# Altium schematic symbol library TeCrea-Misc.SCHLIB: 96 symbols (part 2 of 3)
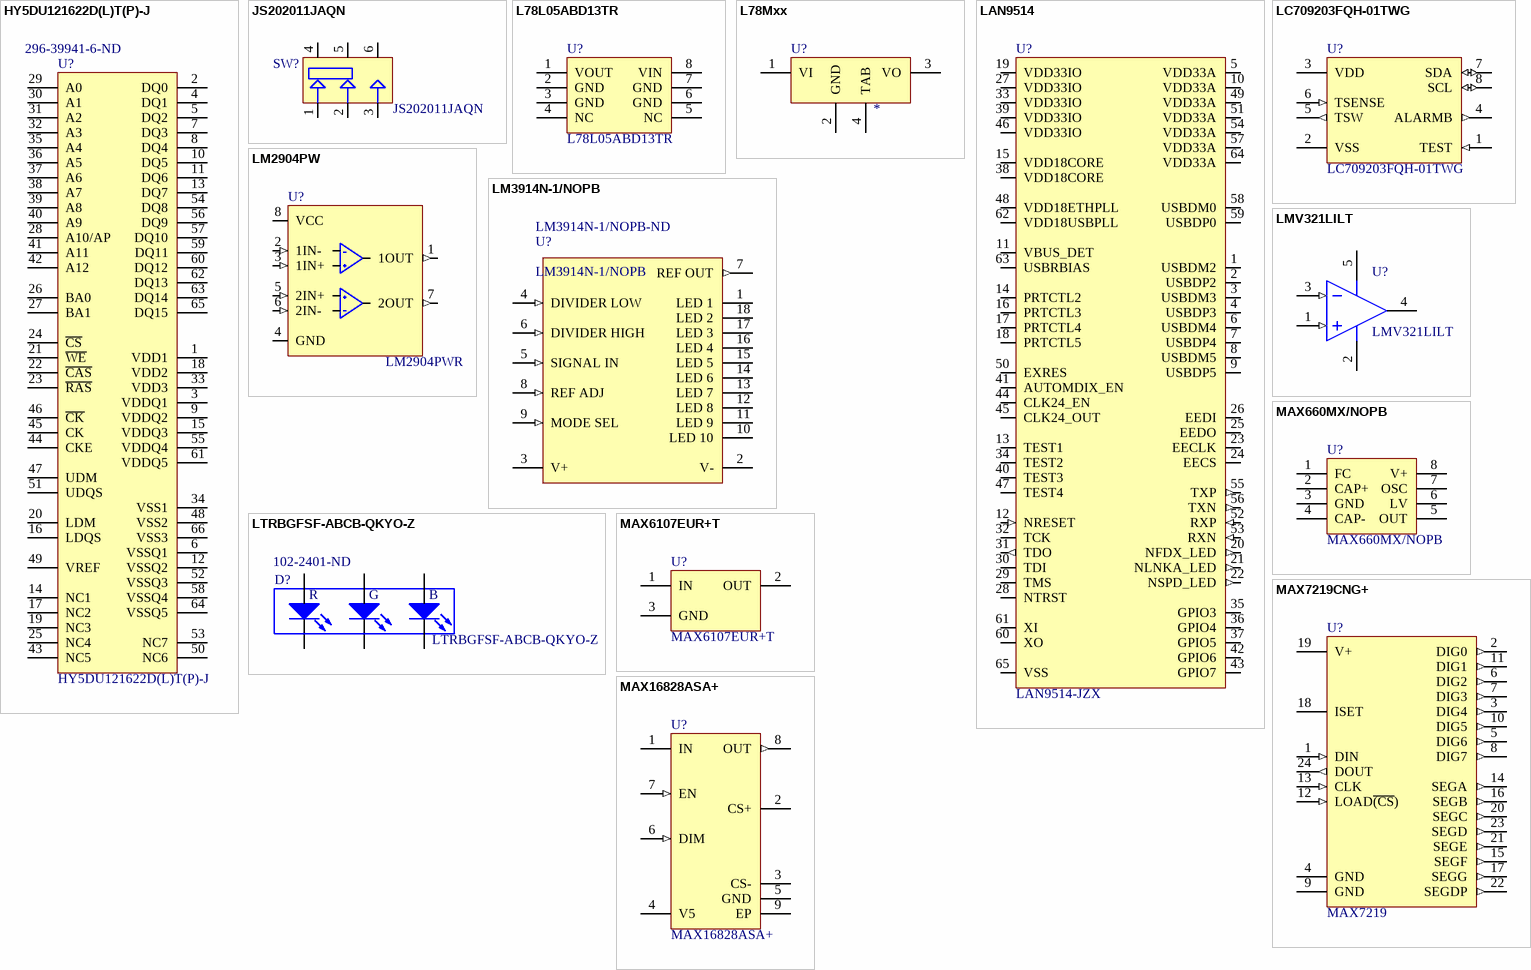
[diagram p5: symbols HY5DU121622D(L)T(P)-J to MAX16828ASA+]

## MAX660MX/NOPB
designator U?
IC REG SWTCHD CAP INV 0.1A 8SOIC; Manufacturer: Texas Instruments; Function: Ratiometric; Output Configuration: Positive or Negative; Topology: Charge Pump; Output Type: Fixed; Number of Outputs: 1; Voltage - Input (Min): 1.5V; Voltage - Input (Max): 5.5V; Voltage - Output (Min/Fixed): -Vin, 2Vin; Current - Output: 100mA; Frequency - Switching: 10kHz, 80kHz; Synchronous Rectifier: No; Supplier 1: Digi-Key; Manufacturer Part Number: MAX660MX/NOPB; RoHS: RoHS Compliant; Category: Integrated Circuits (ICs); Stock 1: 4989; Pricing 1: 1=1.65, 10=1.471, 100=1.1466, 500=0.94718, 1000=0.74778 (USD); Packaging: Cut Tape (CT); Part Status: Active; Voltage - Output (Max): -; Operating Temperature: -40°C ~ 85°C (TA); Mounting Type: Surface Mount; Package / Case: 8-SOIC (0.154", 3.90mm Width); Supplier Device Package: 8-SOIC; Base Part Number: MAX660; ComponentLink1URL: http://www.ti.com/lit/ds/symlink/max660.pdf; ComponentLink1Description: http://www.ti.com/lit/ds/symlink/max660.pdf; Value: MAX660MX/NOPB; Supplier Part Number 1: MAX660MX/NOPBCT-ND
footprint SOIC8 (SOIC, 8-Leads, Body 4.9x3.9mm, Pitch 1.27mm, IPC Medium Density)
pins: 1 FC, 2 CAP+, 3 GND, 4 CAP-, 5 OUT, 6 LV, 7 OSC, 8 V+

## MAX6107EUR+T
designator U?
PMIC - voltage reference Maxim Integrated MAX6107EUR+T Series Adjustable SOT 23-3; Reference Type: Series,Fixed; Max Input Voltage: 12.6V; Min Input Voltage: 4.682V; Output Voltage: 4.5V; Tolerance: 0.4%; Max Output Current: 5mA; Output Type: Fixed; Max Supply Current: 125uA; Temperature Coefficient: 75ppm/°C; Max Output Voltage: 4.518V; Supplier 1: Digi-Key; Manufacturer 1: Maxim; Manufacturer Part Number 1: MAX6107EUR+T; Stock 1: 4299; Pricing 1: 1=1,16000, 10=1,03800, 25=0,98560, 100=0,75680, 250=0,66880, 500=0,63360, 1000=0,57200 (USD); RoHS: Yes; Mount: Surface Mount; Case/Package: SOT-23-3; Number of Pins: 3; Min Operating Temperature: -40°C; Max Operating Temperature: 85°C; Packaging: Tape and Reel; Package Quantity: 1; Min Output Voltage: 4.5V; Output Current: 5mA; Operating Supply Current: 125uA; Reference Voltage: 4.5V; Length: 3.04mm; Height: 1.02mm; Width: 1.4mm; Radiation Hardening: No; Lead Free: Lead Free; REACH SVHC: Unknown; ComponentLink1URL: https://datasheet.ciiva.com/30476/0900766b811dea62-30476385.pdf?src-supplier=RSComponents; ComponentLink1Description: https://datasheet.ciiva.com/30476/0900766b811dea62-30476385.pdf?src-supplier=RSComponents; ComponentLink2URL: https://datasheet.ciiva.com/14198/max6100-max6107-14198853.pdf?src-supplier=Avnet; ComponentLink2Description: https://datasheet.ciiva.com/14198/max6100-max6107-14198853.pdf?src-supplier=Avnet; ComponentLink3URL: https://datasheet.ciiva.com/2008/max6100-max6107-2008214.pdf?src-supplier=Digi-Key; ComponentLink3Description: https://datasheet.ciiva.com/2008/max6100-max6107-2008214.pdf?src-supplier=Digi-Key; ComponentLink4URL: https://datasheet.ciiva.com/2008/max6100-max6107-2008215.pdf?src-supplier=Digi-Key; ComponentLink4Description: https://datasheet.ciiva.com/2008/max6100-max6107-2008215.pdf?src-supplier=Digi-Key; ComponentLink5URL: https://datasheet.ciiva.com/2008/max6100-max6107-2008216.pdf?src-supplier=Digi-Key; ComponentLink5Description: https://datasheet.ciiva.com/2008/max6100-max6107-2008216.pdf?src-supplier=Digi-Key; ComponentLink6URL: https://datasheet.ciiva.com/17217/max6100-max6107-17217436.pdf?src-supplier=Avnet+Europe; ComponentLink6Description: https://datasheet.ciiva.com/17217/max6100-max6107-17217436.pdf?src-supplier=Avnet+Europe; Value: MAX6107EUR+T; Supplier Part Number 1: MAX6107EUR+TCT-ND
footprint SOT-23_N (SOT23, 3-Leads, Body 2.9x1.3mm, Pitch 0.95mm, Lead Span 2.5mm, IPC Medium Density)
pins: 1 IN, 2 OUT, 3 GND

## MAX7219CNG+
designator U?, comment MAX7219
MAXIM INTEGRATED PRODUCTS         MAX7219CNG+.             Led Driver, 8 Outputs, Common Cathode, 4V-5.5V in, 10MHz switch, 4.5V/320mA out, DIP-24; Number of Segments: 64; Max Power Dissipation: 1.066W; High Level Output Current: -2mA; Max Supply Current: 330mA; Low Level Output Current: 5mA; Interface: Serial; Output Current: 320mA; Min Input Voltage: 4V; Max Input Voltage: 5.5V; Number of Outputs: 8; Output Voltage: 4.5V; Nominal Supply Current: 8mA; Supplier 1: Digi-Key; Manufacturer 1: Maxim; Manufacturer Part Number 1: MAX7219CNG+; RoHS: Yes; Category: LED Drivers; Stock 1: 618; Pricing 1: 1=8,86000, 10=8,00400, 25=7,63200, 100=6,32900, 250=5,77056, 500=5,72404 (USD); Mount: Through Hole; Case/Package: DIP; Number of Pins: 24; Min Operating Temperature: 0°C; Max Operating Temperature: 70°C; Packaging: Rail/Tube; Package Quantity: 15; Operating Supply Current: 330mA; Power Dissipation: 1.066W; Switching Frequency: 10MHz; Max Supply Voltage: 5.5V; Min Supply Voltage: 4V; Length: 32.13mm; Height: 4.45mm; Width: 7.87mm; Radiation Hardening: No; Lead Free: Lead Free; REACH SVHC: No SVHC; ComponentLink1URL: https://datasheet.ciiva.com/1604/max7219-max7221-1604016.pdf?src-supplier=Newark; ComponentLink1Description: https://datasheet.ciiva.com/1604/max7219-max7221-1604016.pdf?src-supplier=Newark; ComponentLink2URL: https://datasheet.ciiva.com/22828/0900766b8078af93-22828133.pdf?src-supplier=RSComponents; ComponentLink2Description: https://datasheet.ciiva.com/22828/0900766b8078af93-22828133.pdf?src-supplier=RSComponents; ComponentLink3URL: https://datasheet.ciiva.com/26876/max7219cng-26876053.pdf?src-supplier=IIIC; ComponentLink3Description: https://datasheet.ciiva.com/26876/max7219cng-26876053.pdf?src-supplier=IIIC; ComponentLink4URL: https://datasheet.ciiva.com/29306/170126-da-01-en-ic-max7219cng-dip24n-29306167.pdf?src-supplier=Conrad; ComponentLink4Description: https://datasheet.ciiva.com/29306/170126-da-01-en-ic-max7219cng-dip24n-29306167.pdf?src-supplier=Conrad; ComponentLink5URL: https://datasheet.ciiva.com/1497/26306-1497312.pdf?src-supplier=Element14; ComponentLink5Description: https://datasheet.ciiva.com/1497/26306-1497312.pdf?src-supplier=Element14; ComponentLink6URL: https://datasheet.ciiva.com/3163/max7219-max7221-3163771.pdf?src-supplier=Avnet; ComponentLink6Description: https://datasheet.ciiva.com/3163/max7219-max7221-3163771.pdf?src-supplier=Avnet; ComponentLink7URL: https://datasheet.ciiva.com/1940/max7219-max7221-1940622.pdf?src-supplier=Digi-Key; ComponentLink7Description: https://datasheet.ciiva.com/1940/max7219-max7221-1940622.pdf?src-supplier=Digi-Key; ComponentLink8URL: https://datasheet.ciiva.com/1497/26306-1497311.pdf?src-supplier=Element14; ComponentLink8Description: https://datasheet.ciiva.com/1497/26306-1497311.pdf?src-supplier=Element14; Value: MAX7219; Supplier Part Number 1: MAX7219CNG+-ND
footprint DIL24
pins: 1 DIN (in), 2 DIG0 (out), 3 DIG4 (out), 4 GND, 5 DIG6 (out), 6 DIG2 (out), 7 DIG3 (out), 8 DIG7 (out), 9 GND, 10 DIG5 (out), 11 DIG1 (out), 12 LOAD~{(CS}) (in), 13 CLK (in), 14 SEGA (out), 15 SEGF (out), 16 SEGB (out), 17 SEGG (out), 18 ISET, 19 V+, 20 SEGC (out), 21 SEGE (out), 22 SEGDP (out), 23 SEGD (out), 24 DOUT (out)

## MAX16828ASA+
designator U?
IC LED DRVR LIN DIM 200MA 8SOIC; Manufacturer: Maxim; Power Dissipation: 1.8605W; Output Voltage: 5V; Operating Supply Voltage: 40V; Number of Outputs: 1; Supplier 1: Digi-Key; Manufacturer Part Number: MAX16828ASA+; RoHS: Yes; Category: LED Drivers; Stock 1: 1928; Pricing 1: 1=2,83000, 10=2,54400, 25=2,40000, 100=1,92000, 250=1,68000, 500=1,63200, 1000=1,29600, 2500=1,24800, 5000=1,20000 (USD); Mount: Surface Mount; Number of Pins: 8; Min Operating Temperature: -40°C; Max Operating Temperature: 125°C; Output Current: 200mA; Packaging: Rail/Tube; Package Quantity: 100; Max Power Dissipation: 1.8605W; Radiation Hardening: No; ComponentLink1URL: https://datasheet.ciiva.com/12278/max16815-max16828-99676-12278049.pdf?src-supplier=Mouser; ComponentLink1Description: https://datasheet.ciiva.com/12278/max16815-max16828-99676-12278049.pdf?src-supplier=Mouser; ComponentLink2URL: https://datasheet.ciiva.com/1948/max16815-max16828-1948580.pdf?src-supplier=Digi-Key; ComponentLink2Description: https://datasheet.ciiva.com/1948/max16815-max16828-1948580.pdf?src-supplier=Digi-Key; ComponentLink3URL: https://datasheet.ciiva.com/3164/max16815-max16828-3164862.pdf?src-supplier=Avnet; ComponentLink3Description: https://datasheet.ciiva.com/3164/max16815-max16828-3164862.pdf?src-supplier=Avnet; Value: MAX16828ASA+; Supplier Part Number 1: MAX16828ASA+-ND
footprint SOIC S8E-12 (SOIC, 8-Leads, Body 4,89x3,90mm, Pitch 1,27mm, Thermal Pad 2,29x2,29mm, IPC Medium Density)
pins: 1 IN, 2 CS+, 3 CS-, 4 V5, 5 GND, 6 DIM (in), 7 EN (in), 8 OUT (out), 9 EP

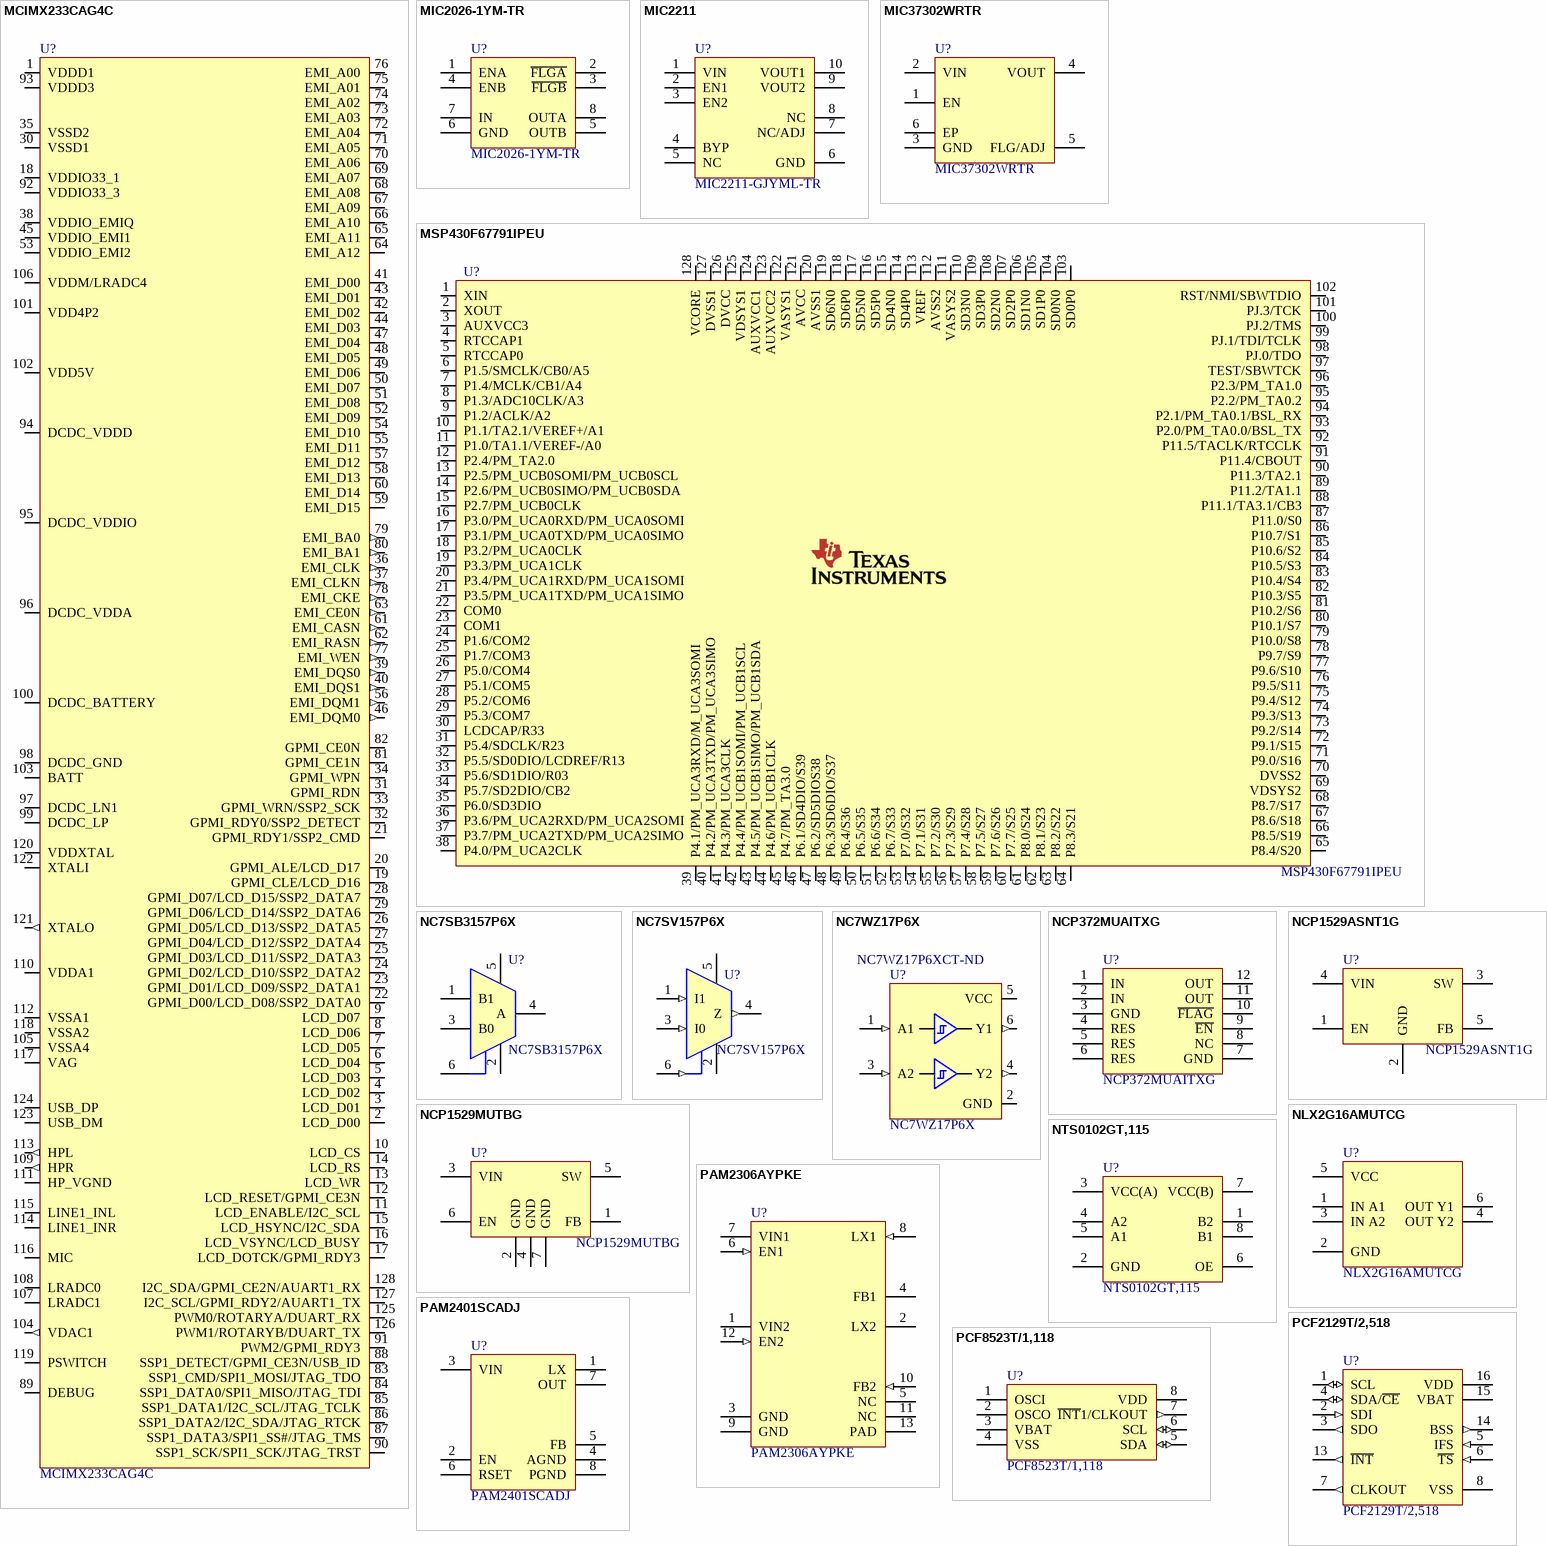
[diagram p2: symbols MCIMX233CAG4C to PCF8523T/1,118]

## MCIMX233CAG4C
designator U?
IC MPU I.MX23 454MHZ 128LQFP; Manufacturer: NXP USA Inc.; Core Processor: ARM926EJ-S; Number of Cores/Bus Width: 1 Core, 32-Bit; Co-Processors/DSP: Data; DCP; RAM Controllers: DRAM; Graphics Acceleration: No; Display & Interface Controllers: LCD, Touchscreen; USB: USB 2.0 + PHY (1); Voltage - I/O: 2.0V, 2.5V, 2.7V, 3.0V, 3.3V; Security Features: Cryptography, Hardware ID; Additional Interfaces: I²C, I²S, MMC/SD/SDIO, SAI, SPI, SSI, SSP, UART; Supplier 1: Digi-Key; Manufacturer Part Number: MCIMX233CAG4C; RoHS: RoHS Compliant; Category: Integrated Circuits (ICs); Stock 1: 1064; Pricing 1: 1=12.35, 10=11.348, 100=10.16 (USD); Packaging: Tray; Part Status: Active; Speed: 454MHz; Ethernet: -; SATA: -; Operating Temperature: -40°C ~ 85°C (TA); Package / Case: 128-LQFP; Supplier Device Package: 128-LQFP (14x14); ComponentLink1URL: http://www.nxp.com/assets/documents/data/en/reference-manuals/IMX23RM.pdf; ComponentLink1Description: http://www.nxp.com/assets/documents/data/en/reference-manuals/IMX23RM.pdf; Supplier Part Number 1: MCIMX233CAG4C-ND; Value: MCIMX233CAG4C
footprint TQFP128LD
pins: 1 VDDD1 (power), 2 LCD_D00, 3 LCD_D01, 4 LCD_D02, 5 LCD_D03, 6 LCD_D04, 7 LCD_D05, 8 LCD_D06, 9 LCD_D07, 10 LCD_CS, 11 LCD_ENABLE/I2C_SCL, 12 LCD_RESET/GPMI_CE3N, 13 LCD_WR, 14 LCD_RS, 15 LCD_HSYNC/I2C_SDA, 16 LCD_VSYNC/LCD_BUSY, 17 LCD_DOTCK/GPMI_RDY3, 18 VDDIO33_1 (power), 19 GPMI_CLE/LCD_D16, 20 GPMI_ALE/LCD_D17, 21 GPMI_RDY1/SSP2_CMD, 22 GPMI_D00/LCD_D08/SSP2_DATA0, 23 GPMI_D01/LCD_D09/SSP2_DATA1, 24 GPMI_D02/LCD_D10/SSP2_DATA2, 25 GPMI_D03/LCD_D11/SSP2_DATA3, 26 GPMI_D05/LCD_D13/SSP2_DATA5, 27 GPMI_D04/LCD_D12/SSP2_DATA4, 28 GPMI_D07/LCD_D15/SSP2_DATA7, 29 GPMI_D06/LCD_D14/SSP2_DATA6, 30 VSSD1 (power), 31 GPMI_RDN, 32 GPMI_RDY0/SSP2_DETECT, 33 GPMI_WRN/SSP2_SCK, 34 GPMI_WPN, 35 VSSD2 (power), 36 EMI_CLK (out), 37 EMI_CLKN (out), 38 VDDIO_EMIQ (power), 39 EMI_DQS0 (out), 40 EMI_DQS1 (out), 41 EMI_D00, 42 EMI_D02, 43 EMI_D01, 44 EMI_D03, 45 VDDIO_EMI1 (power), 46 EMI_DQM0 (out), 47 EMI_D04, 48 EMI_D05, 49 EMI_D06, 50 EMI_D07, 51 EMI_D08, 52 EMI_D09, 53 VDDIO_EMI2 (power), 54 EMI_D10, 55 EMI_D11, 56 EMI_DQM1 (out), 57 EMI_D12, 58 EMI_D13, 59 EMI_D15, 60 EMI_D14, 61 EMI_CASN (out), 62 EMI_RASN (out), 63 EMI_CE0N (out), 64 EMI_A12, 65 EMI_A11, 66 EMI_A10, 67 EMI_A09, 68 EMI_A08, 69 EMI_A07, 70 EMI_A06, 71 EMI_A05, 72 EMI_A04, 73 EMI_A03, 74 EMI_A02, 75 EMI_A01, 76 EMI_A00, 77 EMI_WEN (out), 78 EMI_CKE (out), 79 EMI_BA0 (out), 80 EMI_BA1 (out), 81 GPMI_CE1N, 82 GPMI_CE0N, 83 SSP1_CMD/SPI1_MOSI/JTAG_TDO, 84 SSP1_DATA0/SPI1_MISO/JTAG_TDI, 85 SSP1_DATA1/I2C_SCL/JTAG_TCLK, 86 SSP1_DATA2/I2C_SDA/JTAG_RTCK, 87 SSP1_DATA3/SPI1_SS#/JTAG_TMS, 88 SSP1_DETECT/GPMI_CE3N/USB_ID, 89 DEBUG, 90 SSP1_SCK/SPI1_SCK/JTAG_TRST, 91 PWM2/GPMI_RDY3, 92 VDDIO33_3 (power), 93 VDDD3 (power), 94 DCDC_VDDD (oe), 95 DCDC_VDDIO (oe), 96 DCDC_VDDA (oe), 97 DCDC_LN1, 98 DCDC_GND (power), 99 DCDC_LP, 100 DCDC_BATTERY (power), 101 VDD4P2 (oe), 102 VDD5V (power), 103 BATT, 104 VDAC1 (out), 105 VSSA4 (power), 106 VDDM/LRADC4 (oe), 107 LRADC1, 108 LRADC0, 109 HPR (out), 110 VDDA1 (power), 111 HP_VGND (power), 112 VSSA1 (power), 113 HPL (out), 114 LINE1_INR, 115 LINE1_INL, 116 MIC, 117 VAG, 118 VSSA2 (power), 119 PSWITCH, 120 VDDXTAL, 121 XTALO (out), 122 XTALI, 123 USB_DM, 124 USB_DP, 125 PWM0/ROTARYA/DUART_RX, 126 PWM1/ROTARYB/DUART_TX, 127 I2C_SCL/GPMI_RDY2/AUART1_TX, 128 I2C_SDA/GPMI_CE2N/AUART1_RX

## MIC2026-1YM-TR
designator U?
IC PW DIST SW DUAL 8SOIC; Manufacturer: Microchip; Number of Outputs: 2; Interface: On/Off; Max Output Current: 500mA; On-State Resistance: 90mR; Fault Protection: Over Temperature; Output Configuration: High Side; Supplier 1: Digi-Key; Manufacturer Part Number: MIC2026-1YM-TR; Stock 1: 44306; Pricing 1: 1=1,030000, 25=0,865200, 100=0,782800 (USD); RoHS: Yes; Case/Package: SOIC; Number of Pins: 8; Min Operating Temperature: -40°C; Max Operating Temperature: 85°C; Packaging: Cut Tape; REACH SVHC: No SVHC; Lead Free: Lead Free; ComponentLink1URL: http://www.farnell.com/datasheets/712329.pdf?src-supplier=Farnell; ComponentLink1Description: http://www.farnell.com/datasheets/712329.pdf?src-supplier=Farnell; ComponentLink2URL: http://www.microchip.com/mymicrochip/filehandler.aspx?ddocname=en579448&src-supplier=Digi-Key; ComponentLink2Description: http://www.microchip.com/mymicrochip/filehandler.aspx?ddocname=en579448&src-supplier=Digi-Key; ComponentLink3URL: http://www.farnell.com/datasheets/712329.pdf?src-supplier=Element14; ComponentLink3Description: http://www.farnell.com/datasheets/712329.pdf?src-supplier=Element14; Value: MIC2026-1YM-TR; Supplier Part Number 1: 576-1059-1-ND
footprint SOIC8 (SOIC, 8-Leads, Body 4.9x3.9mm, Pitch 1.27mm, IPC Medium Density)
pins: 1 ENA, 2 ~{FLGA}, 3 ~{FLGB}, 4 ENB, 5 OUTB, 6 GND, 7 IN, 8 OUTA

## MIC2211
designator U?, comment MIC2211-GJYML-TR
IC REG LDO 1.8V/2.5V 10MLF; Manufacturer: Microchip Technology; Regulator Topology: Positive Fixed; Current - Output: 150mA, 300mA; Voltage - Dropout (Typical): 0.12V @ 150mA, 0.24V @ 300mA; Voltage - Input: 2.25 V ~ 5.5 V; Supplier 1: Digi-Key; Manufacturer Part Number: MIC2211-; RoHS: RoHS Compliant; Category: Integrated Circuits (ICs); Stock 1: 15; Pricing 1: 1=0.99, 25=0.824, 100=0.7519 (USD); Packaging: Cut Tape (CT); Part Status: Active; Current - Limit (Min): 150mA, 300mA; Operating Temperature: -40°C ~ 125°C; Mounting Type: Surface Mount; Package / Case: 10-VFDFN Exposed Pad, 10-MLF®; Supplier Device Package: 10-MLF® (3x3); ComponentLink1URL: http://www.microchip.com/mymicrochip/filehandler.aspx?ddocname=en579851; ComponentLink1Description: http://www.microchip.com/mymicrochip/filehandler.aspx?ddocname=en579851; Value: MIC2211-GJYML-TR; Supplier Part Number 1: 576-2605-1-ND
footprint MLF10 (MLF, 10-Leads, Body 3.00x3.00mm, Pitch 0.50mm, Thermal Pad 2.30x1.48mm, IPC Medium Density)
pins: 1 VIN, 2 EN1, 3 EN2, 4 BYP, 5 NC, 6 GND, 7 NC/ADJ, 8 NC, 9 VOUT2, 10 VOUT1

## MIC37302WRTR
designator U?
Linear Voltage Regulator IC Positive Adjustable 1 Output 1.24 V ~ 5.5 V 3A S-PAK-5; Manufacturer: Microchip Micrel; Dropout Voltage: 300mV; Output Voltage: 5.5V; Max Input Voltage: 6V; Min Input Voltage: 2.25V; Number of Outputs: 1; Input Bias Current: 120nA; Reference Voltage: 1.24V; Quiescent Current: 40mA; Accuracy: 1%; Supplier 1: Digi-Key; Manufacturer Part Number: MIC37302WRTR; Stock 1: 2985; Pricing 1: 1=2.27, 25=1.8976, 100=1.7172 (USD); Mount: Surface Mount; Number of Pins: 5; Min Operating Temperature: -40°C; Max Operating Temperature: 125°C; Packaging: Tape and Reel; Max Output Current: 3A; Output Current: 3A; Number of Regulators: 1; Polarity: Positive; Length: 9.52mm; Height: 2.03mm; Width: 8.13mm; Radiation Hardening: No; Lead Free: Lead Free; ComponentLink1URL: https://datasheet.ciiva.com/2045/mic37300-301-302-2045504.pdf; ComponentLink1Description: https://datasheet.ciiva.com/2045/mic37300-301-302-2045504.pdf; ComponentLink2URL: https://datasheet.ciiva.com/2045/mic37300-301-302-2045505.pdf; ComponentLink2Description: https://datasheet.ciiva.com/2045/mic37300-301-302-2045505.pdf; ComponentLink3URL: https://datasheet.ciiva.com/2045/mic37300-301-302-2045506.pdf; ComponentLink3Description: https://datasheet.ciiva.com/2045/mic37300-301-302-2045506.pdf; ComponentLink4URL: https://datasheet.ciiva.com/16356/mic37300-301-302-16356345.pdf; ComponentLink4Description: https://datasheet.ciiva.com/16356/mic37300-301-302-16356345.pdf; ComponentLink5URL: https://datasheet.ciiva.com/15200/getdatasheetpartid-309011-15200699.pdf; ComponentLink5Description: https://datasheet.ciiva.com/15200/getdatasheetpartid-309011-15200699.pdf; ComponentLink6URL: https://datasheet.ciiva.com/12958/mic37300-301-302-12958062.pdf; ComponentLink6Description: https://datasheet.ciiva.com/12958/mic37300-301-302-12958062.pdf; ComponentLink7URL: https://datasheet.ciiva.com/26904/mic37302wrtr-26904608.pdf; ComponentLink7Description: https://datasheet.ciiva.com/26904/mic37302wrtr-26904608.pdf; Supplier Part Number 1: 576-1167-6-ND; Value: MIC37302WRTR
footprint DPAK170P1054X203-6N (S-PAK, 6-Pads, Body 7.17x8.12mm (max), IPC Medium Density)
pins: 1 EN, 2 VIN, 3 GND, 4 VOUT, 5 FLG/ADJ, 6 EP

## MSP430F67791IPEU
designator U?
IC MCU 16BIT 512KB FLASH 128LQFP; Manufacturer: Texas Instruments; Core Processor: CPUXV2; Core Size: 16-Bit; Speed: 25MHz; Connectivity: I²C, IrDA, LIN, SPI, UART/USART; Peripherals: Brown-out Detect/Reset, DMA, LCD, POR, PWM, WDT, 7x24b Sigma Delta Converter; Number of I/O: 90; Program Memory Size: 512KB (512K x 8); RAM Size: 32K x 8; Voltage - Supply (Vcc/Vdd): 1.8 V ~ 3.6 V; Data Converters: A/D 8x10b; Oscillator Type: Internal; Populated: Yes; Supplier 1: Digi-Key; Supplier Part Number 1: 296-39691-ND; Manufacturer Part Number: MSP430F67791IPEU; RoHS: RoHS Compliant; Category: Integrated Circuits (ICs); Stock 1: 711; Pricing 1: 1=12.63, 10=11.603, 100=9.7996, 500=8.7174, 1000=7.515 (USD); Packaging: Tray; Program Memory Type: FLASH; EEPROM Size: -; Operating Temperature: -40°C ~ 85°C (TA); Package / Case: 128-LQFP; Supplier Device Package: 128-LQFP (14x20); ComponentLink1URL: http://www.ti.com/lit/ds/symlink/msp430f67791.pdf; ComponentLink1Description: http://www.ti.com/lit/ds/symlink/msp430f67791.pdf; Value: MSP430F67791IPEU; Supplier 2: Digi-Key; Supplier Part Number 2: 235-1344-ND
footprint PQFP128L
pins: 1 XIN, 2 XOUT, 3 AUXVCC3, 4 RTCCAP1, 5 RTCCAP0, 6 P1.5/SMCLK/CB0/A5, 7 P1.4/MCLK/CB1/A4, 8 P1.3/ADC10CLK/A3, 9 P1.2/ACLK/A2, 10 P1.1/TA2.1/VEREF+/A1, 11 P1.0/TA1.1/VEREF-/A0, 12 P2.4/PM_TA2.0, 13 P2.5/PM_UCB0SOMI/PM_UCB0SCL, 14 P2.6/PM_UCB0SIMO/PM_UCB0SDA, 15 P2.7/PM_UCB0CLK, 16 P3.0/PM_UCA0RXD/PM_UCA0SOMI, 17 P3.1/PM_UCA0TXD/PM_UCA0SIMO, 18 P3.2/PM_UCA0CLK, 19 P3.3/PM_UCA1CLK, 20 P3.4/PM_UCA1RXD/PM_UCA1SOMI, 21 P3.5/PM_UCA1TXD/PM_UCA1SIMO, 22 COM0, 23 COM1, 24 P1.6/COM2, 25 P1.7/COM3, 26 P5.0/COM4, 27 P5.1/COM5, 28 P5.2/COM6, 29 P5.3/COM7, 30 LCDCAP/R33, 31 P5.4/SDCLK/R23, 32 P5.5/SD0DIO/LCDREF/R13, 33 P5.6/SD1DIO/R03, 34 P5.7/SD2DIO/CB2, 35 P6.0/SD3DIO, 36 P3.6/PM_UCA2RXD/PM_UCA2SOMI, 37 P3.7/PM_UCA2TXD/PM_UCA2SIMO, 38 P4.0/PM_UCA2CLK, 39 P4.1/PM_UCA3RXD/M_UCA3SOMI, 40 P4.2/PM_UCA3TXD/PM_UCA3SIMO, 41 P4.3/PM_UCA3CLK, 42 P4.4/PM_UCB1SOMI/PM_UCB1SCL, 43 P4.5/PM_UCB1SIMO/PM_UCB1SDA, 44 P4.6/PM_UCB1CLK, 45 P4.7/PM_TA3.0, 46 P6.1/SD4DIO/S39, 47 P6.2/SD5DIOS38, 48 P6.3/SD6DIO/S37, 49 P6.4/S36, 50 P6.5/S35, 51 P6.6/S34, 52 P6.7/S33, 53 P7.0/S32, 54 P7.1/S31, 55 P7.2/S30, 56 P7.3/S29, 57 P7.4/S28, 58 P7.5/S27, 59 P7.6/S26, 60 P7.7/S25, 61 P8.0/S24, 62 P8.1/S23, 63 P8.2/S22, 64 P8.3/S21, 65 P8.4/S20, 66 P8.5/S19, 67 P8.6/S18, 68 P8.7/S17, 69 VDSYS2, 70 DVSS2, 71 P9.0/S16, 72 P9.1/S15, 73 P9.2/S14, 74 P9.3/S13, 75 P9.4/S12, 76 P9.5/S11, 77 P9.6/S10, 78 P9.7/S9, 79 P10.0/S8, 80 P10.1/S7, 81 P10.2/S6, 82 P10.3/S5, 83 P10.4/S4, 84 P10.5/S3, 85 P10.6/S2, 86 P10.7/S1, 87 P11.0/S0, 88 P11.1/TA3.1/CB3, 89 P11.2/TA1.1, 90 P11.3/TA2.1, 91 P11.4/CBOUT, 92 P11.5/TACLK/RTCCLK, 93 P2.0/PM_TA0.0/BSL_TX, 94 P2.1/PM_TA0.1/BSL_RX, 95 P2.2/PM_TA0.2, 96 P2.3/PM_TA1.0, 97 TEST/SBWTCK, 98 PJ.0/TDO, 99 PJ.1/TDI/TCLK, 100 PJ.2/TMS, 101 PJ.3/TCK, 102 RST/NMI/SBWTDIO, 103 SD0P0, 104 SD0N0, 105 SD1P0, 106 SD1N0, 107 SD2P0, 108 SD2N0, 109 SD3P0, 110 SD3N0, 111 VASYS2, 112 AVSS2, 113 VREF, 114 SD4P0, 115 SD4N0, 116 SD5P0, 117 SD5N0, 118 SD6P0, 119 SD6N0, 120 AVSS1, 121 AVCC, 122 VASYS1, 123 AUXVCC2, 124 AUXVCC1, 125 VDSYS1, 126 DVCC, 127 DVSS1, 128 VCORE

## NC7SB3157P6X
designator U?
FAIRCHILD SEMICONDUCTOR         NC7SB3157P6X             Analogue Switch, SPDT, 1 Channels, 50 ohm, 1.65V to 5.5V, SC-70, 6 Pins; Number of Channels: 1; Bandwidth: 250MHz; Number of Inputs: 2; Max Power Dissipation: 180mW; On-State Resistance: 50R; Turn-On Delay Time: 23ns; Turn-Off Delay Time: 12.5ns; Max Supply Current: 1uA; High Level Output Current: 128mA; Supply Type: Single; Polarity: Non-Inverting; Supplier 1: Digi-Key; Manufacturer: Fairchild Semiconductor; Manufacturer Part Number: NC7SB3157P6X; Stock 1: 50464; Pricing 1: 250=0.1525, 500=0.1238, 1000=0.0952 (USD); Mount: Surface Mount; Case/Package: SC; Number of Pins: 6; Weight: 0.028g; Contact Plating: Tin,Matte; Min Operating Temperature: -40°C; Max Operating Temperature: 85°C; Max Supply Voltage: 5.5V; Package Quantity: 1; Packaging: Tape and Reel; Number of Outputs: 1; Power Dissipation: 180mW; Throw Configuration: SPDT; Number of Circuits: 1; Radiation Hardening: No; REACH SVHC: No SVHC; Lead Free: Lead Free; ComponentLink1URL: https://datasheet.ciiva.com/1582/690558-1582352.pdf; ComponentLink1Description: https://datasheet.ciiva.com/1582/690558-1582352.pdf; ComponentLink2URL: https://datasheet.ciiva.com/15127/getdatasheetpartid-91825-15127074.pdf; ComponentLink2Description: https://datasheet.ciiva.com/15127/getdatasheetpartid-91825-15127074.pdf; ComponentLink3URL: https://datasheet.ciiva.com/2978/fsa3157-2978951.pdf; ComponentLink3Description: https://datasheet.ciiva.com/2978/fsa3157-2978951.pdf; ComponentLink4URL: https://datasheet.ciiva.com/26240/fsa3157-26240519.pdf; ComponentLink4Description: https://datasheet.ciiva.com/26240/fsa3157-26240519.pdf; Value: NC7SB3157P6X; Supplier Part Number 1: NC7SB3157P6XCT-ND
footprint SC70-6 (SC70-6, Body 2.00x2.10mm, Pitch 0.65mm, IPC High Density)
pins: 1 B1, 2 GND, 3 B0, 4 A, 5 VCC, 6 S

## NC7SV157P6X
designator U?
FAIRCHILD SEMICONDUCTOR         NC7SV157P6X             IC, NC7SV, SMD; Manufacturer: ON Semiconductor / Fairchild; Logic Function: Multiplexer,Mux; Max Supply Voltage: 3.6V; Number of Inputs: 2; Number of Outputs: 1; High Level Output Current: 24mA; Supply Type: Single; Throw Configuration: DPST; Supplier 1: Digi-Key; Manufacturer Part Number: NC7SV157P6X; Stock 1: 5162; Pricing 1: 1=0.37, 10=0.297, 100=0.2024, 500=0.15178, 1000=0.11383 (USD); Mount: Surface Mount; Case/Package: SC; Number of Pins: 6; Weight: 0.028g; Contact Plating: Tin,Matte; Min Operating Temperature: -40°C; Max Operating Temperature: 85°C; Packaging: Tape and Reel; Package Quantity: 3000; Number of Channels: 1; Number of Input Lines: 2; Number of Output Lines: 1; Low Level Output Current: 24mA; Independent Circuits: 1; Length: 2mm; Height: 0.9mm; Width: 1.25mm; Radiation Hardening: No; REACH SVHC: No SVHC; Lead Free: Lead Free; ComponentLink1URL: https://datasheet.ciiva.com/4806/nc7sv157-97968-4806785.pdf; ComponentLink1Description: https://datasheet.ciiva.com/4806/nc7sv157-97968-4806785.pdf; ComponentLink2URL: https://datasheet.ciiva.com/8243/nc7sv157-8243185.pdf; ComponentLink2Description: https://datasheet.ciiva.com/8243/nc7sv157-8243185.pdf; ComponentLink3URL: https://datasheet.ciiva.com/1509/183161-1509107.pdf; ComponentLink3Description: https://datasheet.ciiva.com/1509/183161-1509107.pdf; ComponentLink4URL: https://datasheet.ciiva.com/1509/183161-1509108.pdf; ComponentLink4Description: https://datasheet.ciiva.com/1509/183161-1509108.pdf; ComponentLink5URL: https://datasheet.ciiva.com/26241/nc7sv157-26241861.pdf; ComponentLink5Description: https://datasheet.ciiva.com/26241/nc7sv157-26241861.pdf; ComponentLink6URL: https://datasheet.ciiva.com/3305/nc7sv157-3305417.pdf; ComponentLink6Description: https://datasheet.ciiva.com/3305/nc7sv157-3305417.pdf; ComponentLink7URL: https://datasheet.ciiva.com/16742/nc7sv157-16742106.pdf; ComponentLink7Description: https://datasheet.ciiva.com/16742/nc7sv157-16742106.pdf; ComponentLink8URL: https://datasheet.ciiva.com/1888/nc7sv157-1888139.pdf; ComponentLink8Description: https://datasheet.ciiva.com/1888/nc7sv157-1888139.pdf; ComponentLink9URL: https://datasheet.ciiva.com/15087/getdatasheetpartid-70171-15087085.pdf; ComponentLink9Description: https://datasheet.ciiva.com/15087/getdatasheetpartid-70171-15087085.pdf; Value: NC7SV157P6X; Supplier Part Number 1: NC7SV157P6XCT-ND
footprint SC70-6 (SC70-6, Body 2.00x2.10mm, Pitch 0.65mm, IPC High Density)
pins: 1 I1 (in), 2 GND, 3 I0 (in), 4 Z (out), 5 VCC, 6 S (in)

## NC7WZ17P6X
designator U?  Supplier Part Number 1: NC7WZ17P6XCT-ND
IC BUFF DL SCHMT TRIG UHS SC706; Manufacturer: Fairchild Semiconductor; Logic Type: Buffer, Non-Inverting; Number of Elements: 2; Number of Bits per Element: 1; Input Type: Schmitt Trigger; Output Type: Push-Pull; Current - Output High, Low: 32mA, 32mA; Voltage - Supply: 1.65 V ~ 5.5 V; Manufacturer Part Number: NC7WZ17P6X; RoHS: RoHS Compliant; Category: Integrated Circuits (ICs); Stock 1: 200295; Pricing 1: 1=0.41, 10=0.307, 100=0.1734, 500=0.11494, 1000=0.08816 (USD); Packaging: Cut Tape (CT); Part Status: Active; Operating Temperature: -40°C ~ 85°C (TA); Mounting Type: Surface Mount; Package / Case: 6-TSSOP, SC-88, SOT-363; Supplier Device Package: SC-70-6; ComponentLink1URL: http://www.fairchildsemi.com/datasheets/NC/NC7WZ17.pdf; ComponentLink1Description: http://www.fairchildsemi.com/datasheets/NC/NC7WZ17.pdf; Value: NC7WZ17P6X; Supplier 1: Digi-Key
footprint SOT-363
pins: 1 A1 (in), 2 GND, 3 A2 (in), 4 Y2 (out), 5 VCC (power), 6 Y1 (out)

## NCP372MUAITXG
designator U?
IC CTLR OVP POS & NEG 12-LLGA; Manufacturer: ON Semiconductor; Voltage - Supply: -28 V ~ 28 V; Current - Supply: 200µA; Supplier 1: Digi-Key; Manufacturer Part Number: NCP372MUAITXG; RoHS: RoHS Compliant; Category: Integrated Circuits (ICs); Stock 1: 8980; Pricing 1: 1=1.29, 10=1.155, 100=0.9002, 500=0.74366, 1000=0.5871 (USD); Packaging: Cut Tape (CT); Part Status: Active; Applications: Overvoltage Protection Controller; Voltage - Input: -; Operating Temperature: -40°C ~ 85°C; Mounting Type: Surface Mount; Package / Case: 12-UFLGA Exposed Pad; Supplier Device Package: 12-LLGA (3x3); ComponentLink1URL: http://www.onsemi.com/pub_link/Collateral/NCP372-D.PDF; ComponentLink1Description: http://www.onsemi.com/pub_link/Collateral/NCP372-D.PDF; Supplier Part Number 1: NCP372MUAITXGOSCT-ND; Value: NCP372MUAITXG
footprint LLGA12 (LLGA, 12-Leads, Body 3.00x3.00mm, Pitch 0.50mm, Thermal Pad 2.75x1.52mm, IPC Medium Density)
pins: 1 IN, 2 IN, 3 GND, 4 RES, 5 RES, 6 RES, 7 GND, 8 NC, 9 ~{EN}, 10 ~{FLAG}, 11 OUT, 12 OUT

## NCP1529ASNT1G
designator U?
IC REG BUCK ADJ 1A SYNC 5TSOP; Manufacturer: ON Semiconductor; Function: Step-Down; Output Configuration: Positive; Output Type: Adjustable; Number of Outputs: 1; Voltage - Input (Min): 2.7V; Voltage - Input (Max): 5.5V; Voltage - Output (Min/Fixed): 0.9V; Voltage - Output (Max): 3.9V; Frequency - Switching: 1.7MHz; Synchronous Rectifier: Yes; Supplier 1: Digi-Key; Manufacturer Part Number: NCP1529ASNT1G; RoHS: RoHS Compliant; Category: Integrated Circuits (ICs); Stock 1: 7297; Pricing 1: 1=0.85, 10=0.76, 100=0.5923, 500=0.48926, 1000=0.38625 (USD); Packaging: Cut Tape (CT); Part Status: Active; Topology: Buck; Current - Output: 1A; Operating Temperature: -40°C ~ 85°C (TA); Mounting Type: Surface Mount; Package / Case: SOT-23-5 Thin, TSOT-23-5; Supplier Device Package: 5-TSOP; ComponentLink1URL: http://www.onsemi.com/pub_link/Collateral/NCP1529-D.PDF; ComponentLink1Description: http://www.onsemi.com/pub_link/Collateral/NCP1529-D.PDF; Value: NCP1529ASNT1G; Supplier Part Number 1: NCP1529ASNT1GOSCT-ND
footprint SOT95P275X110-5N (SOT23, 5-Leads, Body 3,00x2,75mm, Pitch 0,95mm, IPC Medium Density)
pins: 1 EN, 2 GND, 3 SW, 4 VIN, 5 FB

## NCP1529MUTBG
designator U?
IC REG BUCK ADJ 1A SYNC 6UDFN; Manufacturer: ON Semiconductor; Function: Step-Down; Output Configuration: Positive; Output Type: Adjustable; Number of Outputs: 1; Voltage - Input (Min): 2.7V; Voltage - Input (Max): 5.5V; Voltage - Output (Min/Fixed): 0.9V; Voltage - Output (Max): 3.9V; Frequency - Switching: 1.7MHz; Synchronous Rectifier: Yes; Supplier 1: Digi-Key; Manufacturer Part Number: NCP1529MUTBG; RoHS: RoHS Compliant; Category: Integrated Circuits (ICs); Stock 1: 16266; Pricing 1: 1=0.93, 10=0.814, 100=0.6242, 500=0.49342, 1000=0.39474 (USD); Packaging: Cut Tape (CT); Part Status: Active; Topology: Buck; Current - Output: 1A; Operating Temperature: -40°C ~ 85°C (TA); Mounting Type: Surface Mount; Package / Case: 6-UDFN Exposed Pad; Supplier Device Package: 6-UDFN (2x2); ComponentLink1URL: http://www.onsemi.com/pub_link/Collateral/NCP1529-D.PDF; ComponentLink1Description: http://www.onsemi.com/pub_link/Collateral/NCP1529-D.PDF; Value: NCP1529MUTBG; Supplier Part Number 1: NCP1529MUTBGOSCT-ND
footprint UDFN6 (PSON, 6-Leads, Body 2,00x2,00mm, Pitch 0,50mm, Thermal Pad 1,60x0,90mm, IPC Medium Density)
pins: 1 FB, 2 GND, 3 VIN, 4 GND, 5 SW, 6 EN, 7 GND

## NLX2G16AMUTCG
designator U?
Buffer 2-CH Non-Inverting CMOS 6-Pin UDFN T/R; Manufacturer: ON Semiconductor; Logic Function: Buffer,Inverting; Max Supply Voltage: 5.5V; Min Supply Voltage: 1.65V; Operating Supply Current: 100mA; Number of Elements: 2; Number of Bits per Element: 1; High Level Output Current: 32mA; Quiescent Current: 1uA; Supplier 1: Digi-Key; Manufacturer Part Number: NLX2G16AMUTCG; Stock 1: 4154; Pricing 1: 1=0,38000, 10=0,31000, 100=0,21090, 500=0,15820, 1000=0,11866 (USD); RoHS: Yes; Mount: Surface Mount; Number of Pins: 6; Contact Plating: Gold; Min Operating Temperature: -55°C; Max Operating Temperature: 125°C; Packaging: Tape and Reel; Package Quantity: 3000; Polarity: Non-Inverting; Low Level Output Current: 32mA; Radiation Hardening: No; Lead Free: Lead Free; Halogen Free: Halogen Free; ComponentLink1URL: http://www.mouser.com/ds/2/308/NLX2G16-D-115594.pdf?src-supplier=Mouser; ComponentLink1Description: http://www.mouser.com/ds/2/308/NLX2G16-D-115594.pdf?src-supplier=Mouser; ComponentLink2URL: http://www.onsemi.com/pub_link/Collateral/NLX2G16-D.PDF?src-supplier=Avnet+Asia; ComponentLink2Description: http://www.onsemi.com/pub_link/Collateral/NLX2G16-D.PDF?src-supplier=Avnet+Asia; ComponentLink3URL: http://www.onsemi.com/pub/Collateral/NLX2G16-D.PDF?src-supplier=Digi-Key; ComponentLink3Description: http://www.onsemi.com/pub/Collateral/NLX2G16-D.PDF?src-supplier=Digi-Key; ComponentLink4URL: http://www.onsemi.com/pub_link/Collateral/NLX2G16-D.PDF?src-supplier=Avnet; ComponentLink4Description: http://www.onsemi.com/pub_link/Collateral/NLX2G16-D.PDF?src-supplier=Avnet; Value: NLX2G16AMUTCG; Supplier Part Number 1: NLX2G16AMUTCGOSCT-ND
footprint UDFN6 1.45x1.0, 0.5P
pins: 1 IN A1, 2 GND, 3 IN A2, 4 OUT Y2, 5 VCC, 6 OUT Y1

## NTS0102GT,115
designator U?
IC TRANSLATING TXRX 8XSON; Manufacturer: NXP USA Inc.; Translator Type: Voltage Level; Channel Type: Bidirectional; Number of Circuits: 1; Channels per Circuit: 2; Voltage - VCCA: 1.65 V ~ 3.6 V; Voltage - VCCB: 2.3 V ~ 5.5 V; Output Type: Open Drain, Tri-State; Data Rate: 50Mbps; Supplier 1: Digi-Key; Manufacturer Part Number: NTS0102GT,115; RoHS: RoHS Compliant; Category: Integrated Circuits (ICs); Stock 1: 23595; Pricing 1: 1=0.54, 10=0.464, 100=0.3461, 500=0.27192, 1000=0.21012 (USD); Packaging: Cut Tape (CT); Part Status: Active; Input Signal: -; Output Signal: -; Operating Temperature: -40°C ~ 125°C (TA); Features: Auto-Direction Sensing; Mounting Type: Surface Mount; Package / Case: 8-XFDFN; Supplier Device Package: 8-XSON, SOT833-1 (1.95x1); ComponentLink1URL: http://www.nxp.com/documents/data_sheet/NTS0102.pdf; ComponentLink1Description: http://www.nxp.com/documents/data_sheet/NTS0102.pdf; Value: NTS0102GT,115; Supplier Part Number 1: 568-5205-1-ND
footprint SON60P100X50-8N (SON, 8-Leads, Body 1.95x1.00mm, Pitch 0.60mm, IPC Medium Density)
footprint TSSOP8 (TSOP, 8-Leads, Body 3.00x3.00mm, Pitch 0.65mm, IPC Medium Density)
pins: 1 B2, 2 GND, 3 VCC(A), 4 A2, 5 A1, 6 OE, 7 VCC(B), 8 B1

## PAM2306AYPKE
designator U?
IC REG BCK 1.8V/3.3V 1A DL 12DFN; Manufacturer: Diodes Incorporated; Function: Step-Down; Output Configuration: Positive; Topology: Buck; Output Type: Fixed; Number of Outputs: 2; Voltage - Input (Min): 2.5V; Voltage - Input (Max): 5.5V; Voltage - Output (Min/Fixed): 1.8V, 3.3V; Frequency - Switching: 1.5MHz; Synchronous Rectifier: Yes; Supplier 1: Digi-Key; Manufacturer Part Number: PAM2306AYPKE; RoHS: RoHS Compliant; Category: Integrated Circuits (ICs); Stock 1: 0; Pricing 1: 3000=0.2755 (USD); Packaging: Tape & Reel (TR); Part Status: Active; Voltage - Output (Max): -; Current - Output: 1A; Operating Temperature: -40°C ~ 85°C (TA); Mounting Type: Surface Mount; Package / Case: 12-WFDFN Exposed Pad; Supplier Device Package: 12-WDFN (3x3); ComponentLink1URL: https://www.diodes.com/assets/Datasheets/PAM2306.pdf; ComponentLink1Description: https://www.diodes.com/assets/Datasheets/PAM2306.pdf; Supplier Part Number 1: PAM2306AYPKE-ND; Supplier 2: Mouser; Supplier Part Number 2: 621-PAM2306AYPKE; Value: PAM2306AYPKE
footprint WDFN12
pins: 1 VIN2, 2 LX2, 3 GND, 4 FB1, 5 NC, 6 EN1 (in), 7 VIN1, 8 LX1 (in), 9 GND, 10 FB2 (in), 11 NC, 12 EN2 (in), 13 PAD

## PAM2401SCADJ
designator U?
IC REG BOOST ADJ 3A SYNC 8MSOP; Manufacturer: Diodes; Number of Outputs: 1; Min Input Voltage: 900mV; Max Input Voltage: 4.75V; Min Output Voltage: 2.5V; Max Output Voltage: 5V; Switching Frequency: 1MHz; Synchronous Rectifier: Yes; Operating Supply Current: 1uA; Output Type: Adjustable; Output Configuration: Positive; Supplier 1: Digi-Key; Manufacturer Part Number: PAM2401SCADJ; Stock 1: 1791; Pricing 1: 1=1,02000, 10=0,91200, 100=0,71070, 500=0,58710, 1000=0,46350 (USD); RoHS: Yes; Mount: Surface Mount; Case/Package: MSOP; Number of Pins: 8; Weight: 0.004938oz; Min Operating Temperature: -40°C; Max Operating Temperature: 85°C; Packaging: Tape and Reel; Output Current: 3A; Package Quantity: 2500; Min Supply Voltage: 900mV; Topology: Boost; Lead Free: Lead Free; ComponentLink1URL: http://www.mouser.com/ds/2/115/PAM2401-347378.pdf?src-supplier=Mouser; ComponentLink1Description: http://www.mouser.com/ds/2/115/PAM2401-347378.pdf?src-supplier=Mouser; ComponentLink2URL: https://www.diodes.com/assets/Datasheets/PAM2401.pdf?src-supplier=Digi-Key; ComponentLink2Description: https://www.diodes.com/assets/Datasheets/PAM2401.pdf?src-supplier=Digi-Key; ComponentLink3URL: http://diodes.com/datasheets/PAM2401.pdf?src-supplier=Avnet; ComponentLink3Description: http://diodes.com/datasheets/PAM2401.pdf?src-supplier=Avnet; Value: PAM2401SCADJ; Supplier Part Number 1: PAM2401SCADJDICT-ND
footprint MSOP-8
pins: 1 LX, 2 EN, 3 VIN, 4 AGND, 5 FB, 6 RSET, 7 OUT, 8 PGND

## PCF2129T/2,518
designator U?
NXP - PCF2129T/2,518 - IC, Kalender, Uhr, Format (YYYY:MM:WK:DD:hh:mm:ss/Binär), I2C, SPI, 1.8V-4.2V Versorgung, SOIC-16; Manufacturer 1: NXP Semiconductors; Logic Function: Clock; Date Format: Binary; Max Supply Voltage: 4.2V; Min Supply Voltage: 1.8V; Interface: Serial,I2C,SPI; Supplier 1: Digi-Key; Manufacturer Part Number 1: PCF2129T/2,518; Stock 1: 7808; Pricing 1: 1=3,29000, 10=2,95700, 25=2,79520, 100=2,42250, 250=2,29824, 500=2,06222 (USD); RoHS: Yes; Mount: Surface Mount; Case/Package: SO; Number of Pins: 16; Weight: 0.225753oz; Min Operating Temperature: -40°C; Max Operating Temperature: 85°C; Time Format: HH:MM:SS; Packaging: Tape and Reel; Package Quantity: 1000; Radiation Hardening: No; Lead Free: Lead Free; REACH SVHC: No SVHC; ComponentLink1URL: https://datasheet.ciiva.com/8145/pcf2129t-8145169.pdf?src-supplier=Avnet; ComponentLink1Description: https://datasheet.ciiva.com/8145/pcf2129t-8145169.pdf?src-supplier=Avnet; ComponentLink2URL: https://datasheet.ciiva.com/15306/pcf2129t-242133-15306956.pdf?src-supplier=Mouser; ComponentLink2Description: https://datasheet.ciiva.com/15306/pcf2129t-242133-15306956.pdf?src-supplier=Mouser; Value: PCF2129T/2,518; Supplier Part Number 1: 568-9818-1-ND
footprint SOIC16 (SOIC, 16-Leads, Body 10,30x7,50mm, Pitch 1,27mm, IPC Medium Density)
pins: 1 SCL (io), 2 SDI (in), 3 SDO (out), 4 SDA/~{CE} (io), 5 IFS (in), 6 ~{TS} (in), 7 CLKOUT (out), 8 VSS, 13 ~{INT} (out), 14 BSS (out), 15 VBAT, 16 VDD

## PCF8523T/1,118
designator U?
IC RTC CLK/CALENDAR I2C 8-SOIC; Manufacturer: NXP Semiconductors; Logic Function: Clock; Time Format: HH:MM:SS; Min Supply Voltage: 1.2V; Max Supply Voltage: 5.5V; Supplier 1: Digi-Key; Manufacturer Part Number: PCF8523T/1,118; Stock 1: 21215; Pricing 1: 1 = 1,300000, 10 = 1,160000, 100 = 0,904500, 500 = 0,747180, 1000 = 0,589880 (USD); RoHS: Yes; Mount: Surface Mount; Case/Package: SO; Number of Pins: 8; Contact Plating: Gold; Min Operating Temperature: -40°C; Max Operating Temperature: 85°C; Packaging: Tape and Reel; Interface: I2C; Package Quantity: 2500; Radiation Hardening: No; REACH SVHC: No SVHC; Lead Free: Lead Free; ComponentLink1URL: https://datasheet.ciiva.com/15152/getdatasheetpartid-445247-15152839.pdf?src-supplier=Verical; ComponentLink1Description: https://datasheet.ciiva.com/15152/getdatasheetpartid-445247-15152839.pdf?src-supplier=Verical; ComponentLink2URL: https://datasheet.ciiva.com/1238/pcf8523-1238780.pdf?src-supplier=Digi-Key; ComponentLink2Description: https://datasheet.ciiva.com/1238/pcf8523-1238780.pdf?src-supplier=Digi-Key; ComponentLink3URL: https://datasheet.ciiva.com/1238/pcf8523-1238781.pdf?src-supplier=Digi-Key; ComponentLink3Description: https://datasheet.ciiva.com/1238/pcf8523-1238781.pdf?src-supplier=Digi-Key; ComponentLink4URL: https://datasheet.ciiva.com/16286/pcf8523-16286477.pdf?src-supplier=Future+Electronics; ComponentLink4Description: https://datasheet.ciiva.com/16286/pcf8523-16286477.pdf?src-supplier=Future+Electronics; ComponentLink5URL: https://datasheet.ciiva.com/1238/pcf8523-1238782.pdf?src-supplier=Digi-Key; ComponentLink5Description: https://datasheet.ciiva.com/1238/pcf8523-1238782.pdf?src-supplier=Digi-Key; Value: PCF8523T/1,118; Supplier Part Number 1: 568-5306-1-ND
footprint SOIC8 (SOIC, 8-Leads, Body 4.9x3.9mm, Pitch 1.27mm, IPC Medium Density)
pins: 1 OSCI, 2 OSCO, 3 VBAT, 4 VSS, 5 SDA (io), 6 SCL (io), 7 ~{INT}1/CLKOUT (out), 8 VDD

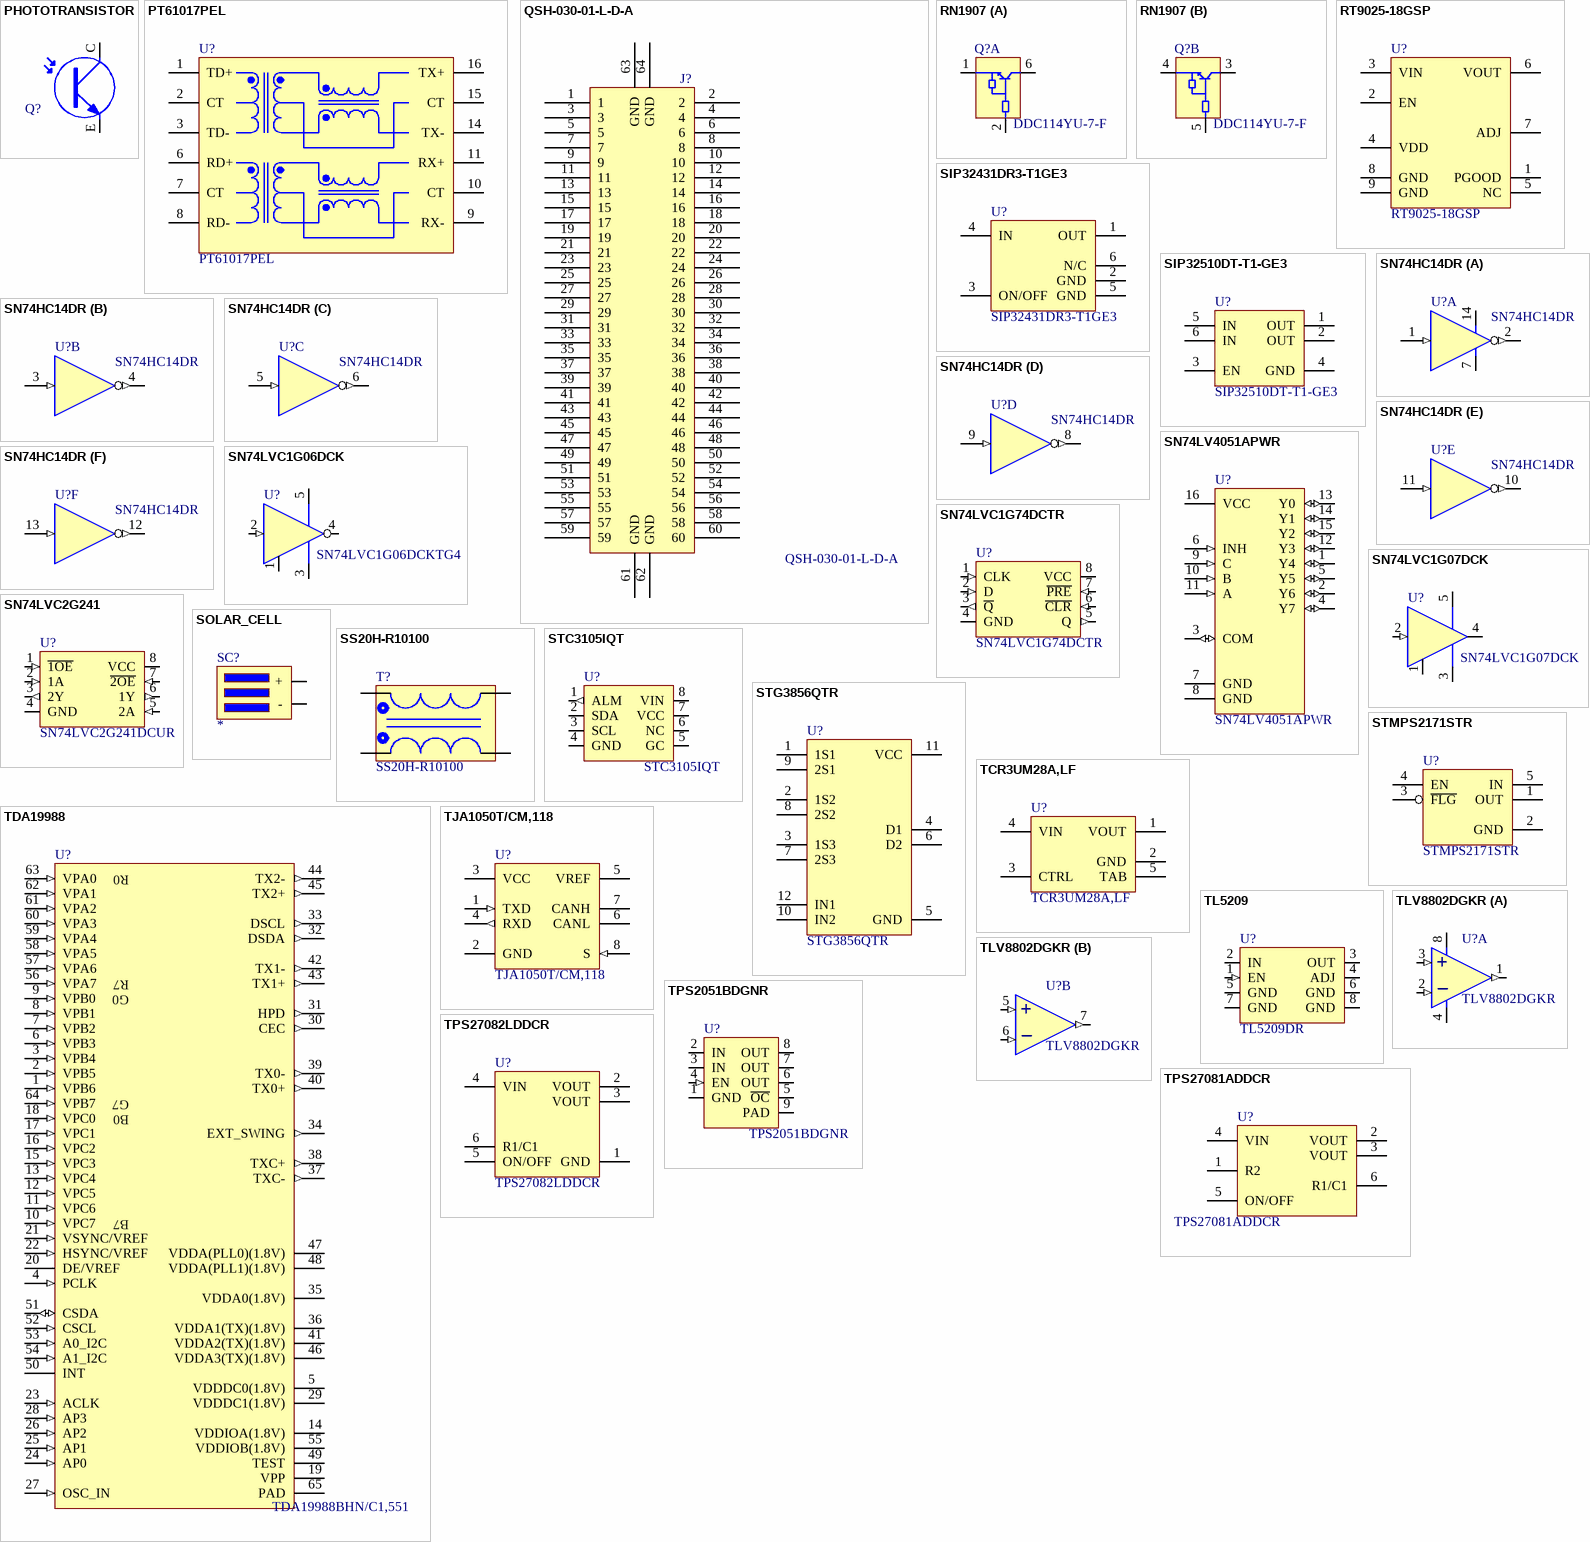
[diagram p3: symbols PHOTOTRANSISTOR to TPS27082LDDCR]

## PHOTOTRANSISTOR
designator Q?, comment PT17-21C/L41/TR8  (value not drawn)
Phototrans, Clear, Top View, 940nm, 0.4V, 1mA, 0805; Part Number: PHOTO00002; Manuf1: Everlight; Populated: Yes; Package: 0805; Lens Type: Clear; Supplier 1: Digi-Key; Supplier Part Number 1: 1080-1382-1-ND; Supplier Price 1: 0.07101; Stock Quantity: 7; Stock Date: 10/24/2012; ComponentLink1URL: http://www.digikey.com/product-detail/en/PT17-21C%2FL41%2FTR8/1080-1382-1-ND/2676116; Manuf1Partnumber: PT17-21C/L41/TR8; Value: PT17-21C/L41/TR8
footprint PHOTOTRANS2012X13
pins: C, E

## PT61017PEL
designator U?
TRANSFORMER LAN 10/100; Manufacturer: Bourns Inc.; Supplier 1: Digi-Key; Manufacturer Part Number: PT61017PEL; RoHS: RoHS Compliant; Category: Transformers; Stock 1: 5935; Pricing 1: 1=1.65, 10=1.32, 25=1.0724, 50=1.045, 100=1.0175, 250=0.99 (USD); Part Status: Active; ComponentLink1URL: http://www.bourns.com/docs/Product-Datasheets/PT61017PEL.pdf; ComponentLink1Description: http://www.bourns.com/docs/Product-Datasheets/PT61017PEL.pdf; Value: PT61017PEL; Supplier Part Number 1: PT61017PELCT-ND
footprint PT61017PEL
pins: 1 TD+, 2 CT, 3 TD-, 6 RD+, 7 CT, 8 RD-, 9 RX-, 10 CT, 11 RX+, 14 TX-, 15 CT, 16 TX+

## QSH-030-01-L-D-A
designator J?
CONN RCPT HI-SPD .5MM 60POS DL; Manufacturer: Samtec Inc; .Checked PCB: used; Connector Type: Receptacle, Center Strip Contacts; Number of Positions: 60; Pitch: 0.020" (0.50mm); Mating connector: QTH-030-02-L-D-A; Mated Stacking Heights: 5mm, 8mm, 11mm, 16mm, 19mm, 25mm; Populated: Yes; .Checked SCH: used; Category: Connectors, Interconnects; Manufacturer Part Number: QSH-030-01-L-D-A; Price 1k [$]: 5.18075; Value: QSH-030-01-L-D-A; Number of Rows: 2; Height with mainting: 5mm, 8mm, 11mm, 16mm, 19mm, 25mm; Supplier 1: Digi-Key; Supplier Part Number 1: SAM8180-ND; RoHS: RoHS Compliant; Stock 1: 3746; Pricing 1: 1=8.96, 10=8.288, 25=7.84, 50=7.4368, 100=6.944, 250=6.048, 500=5.824, 1000=5.6, 2500=5.376 (USD); Mounting Type: Surface Mount; Features: Board Guide, Ground Bus (Plane); Contact Finish: Gold; Contact Finish Thickness: 10µin (0.25µm); Packaging: Tray; Height Above Board: 0.128" (3.25mm); ComponentLink1URL: http://www.samtec.com/ftppub/cpdf/QSH-XXX-01-X-D-XX-MKT.pdf; ComponentLink1Description: http://www.samtec.com/ftppub/cpdf/QSH-XXX-01-X-D-XX-MKT.pdf
footprint QSH-030-01-L-D-A
pins: 1, 2, 3, 4, 5, 6, 7, 8, 9, 10, 11, 12, 13, 14, 15, 16, 17, 18, 19, 20, 21, 22, 23, 24, 25, 26, 27, 28, 29, 30, 31, 32, 33, 34, 35, 36, 37, 38, 39, 40, 41, 42, 43, 44, 45, 46, 47, 48, 49, 50, 51, 52, 53, 54, 55, 56, 57, 58, 59, 60, 61 GND, 62 GND, 63 GND, 64 GND, 65 HOLE1 hidden, 66 HOLE2 hidden

## RN1907
designator Q?, comment DDC114YU-7-F
TRANS PREBIASED DUAL NPN SOT363; Manufacturer: Toshiba; Order# 2: BCR135S; ATLStockNo1: 2130.0137; ATLStockNo2: 2130.01; Transistor Type: 2 NPN - Pre-Biased (Dual); Current - Collector (Ic) (Max): 100mA; Voltage - Collector Emitter Breakdown (Max): 50V; Resistor - Base (R1) (Ohms): 10k; Resistor - Emitter Base (R2) (Ohms): 47k; DC Current Gain (hFE) (Min) @ Ic, Vce: 68 @ 10mA, 5V; Vce Saturation (Max) @ Ib, Ic: 300mV @ 250µA, 5mA; Current - Collector Cutoff (Max): 500nA; Frequency - Transition: 250MHz; Power - Max: 200mW; Populated: Yes; Supplier 1: Digi-Key; Supplier Part Number 1: DDC114YU-FDIDKR-ND; Manufacturer Part Number: DDC114YU-7-F; RoHS: RoHS Compliant; Category: Discrete Semiconductor Products; Stock 1: 11411; Pricing 1: 1=0.46, 10=0.334, 25=0.2596, 100=0.1966, 250=0.13896, 500=0.11124, 1000=0.08532 (USD); Mounting Type: Surface Mount; Package / Case: 6-TSSOP, SC-88, SOT-363; Supplier Device Package: SOT-363; Packaging: Digi-Reel®; ComponentLink1URL: http://www.diodes.com/datasheets/ds30345.pdf; ComponentLink1Description: http://www.diodes.com/datasheets/ds30345.pdf; Value: DDC114YU-7-F
footprint SMINI6-F3-B
part A pins: 1 4, 2 5, 6 3
part B pins: 3, 4, 5

## RT9025-18GSP
designator U?
IC REG LINEAR POS ADJ 2A 8SOP; Manufacturer: Richtek USA Inc.; Output Configuration: Positive; Output Type: Adjustable (Fixed); Voltage - Input (Max): 5.5V; Voltage - Output (Min/Fixed): 0.8V (1.8V); Voltage Dropout (Max): 0.3V @ 2A; Control Features: Enable, Power Good; Protection Features: Over Current, Over Temperature; Supplier 1: Digi-Key; Manufacturer Part Number: RT9025-18GSP; RoHS: RoHS Compliant; Category: Integrated Circuits (ICs); Stock 1: 2950; Pricing 1: 1=0.62, 10=0.541, 25=0.4788, 100=0.4172, 250=0.36308, 500=0.309, 1000=0.2472 (USD); Packaging: Cut Tape (CT); Part Status: Active; Voltage - Output (Max): 5.5V; Current - Output: 2A; PSRR: -; Operating Temperature: -40°C ~ 85°C; Mounting Type: Surface Mount; Package / Case: 8-SOIC (0.154", 3.90mm Width) Exposed Pad; Supplier Device Package: 8-SOP-EP; ComponentLink1URL: http://www.richtek.com/assets/product_file/RT9025/DS9025-05.pdf; ComponentLink1Description: http://www.richtek.com/assets/product_file/RT9025/DS9025-05.pdf; Value: RT9025-18GSP; Supplier Part Number 1: 1028-1008-1-ND
footprint 8SOP-TE (SOIC, 8-Leads, Body 4.90x3.90mm, Pitch 1.27mm, Thermal Pad 3.50x2.00mm, IPC Medium Density)
pins: 1 PGOOD, 2 EN, 3 VIN, 4 VDD, 5 NC, 6 VOUT, 7 ADJ, 8 GND, 9 GND

## SIP32431DR3-T1GE3
designator U?
IC SWITCH HIGH SIDE SC70-6; Manufacturer: Vishay Siliconix; Number of Outputs: 1; Max Power Dissipation: 250mW; Output Current: 1A; Max Supply Voltage: 5.5V; Min Supply Voltage: 1.1V; On-State Resistance: 147mR; Turn-Off Delay Time: 10us; Turn-On Delay Time: 40us; Max Output Current: 3A; Supplier 1: Digi-Key; Manufacturer Part Number: SIP32431DR3-T1GE3; Stock 1: 81534; Pricing 1: 1 = 0,58000, 10 = 0,51000, 25 = 0,47880, 100 = 0,39090, 250 = 0,36308, 500 = 0,30900, 1000 = 0,24720 (USD); RoHS: Yes; Mount: Surface Mount; Case/Package: SC; Number of Pins: 6; Weight: 0.000988oz; Min Operating Temperature: -40°C; Max Operating Temperature: 85°C; Package Quantity: 1; Packaging: Tape and Reel; Output Current per Channel: 1A; Power Dissipation: 250mW; Radiation Hardening: No; REACH SVHC: Unknown; Lead Free: Lead Free; ComponentLink1URL: https://datasheet.ciiva.com/1954/sip32431-1954880.pdf?src-supplier=Digi-Key; ComponentLink1Description: https://datasheet.ciiva.com/1954/sip32431-1954880.pdf?src-supplier=Digi-Key; ComponentLink2URL: https://datasheet.ciiva.com/4923/sip32431-109448-4923460.pdf?src-supplier=Mouser; ComponentLink2Description: https://datasheet.ciiva.com/4923/sip32431-109448-4923460.pdf?src-supplier=Mouser; ComponentLink3URL: https://datasheet.ciiva.com/26931/getdatasheetpartid-726165-26931257.pdf?src-supplier=Verical; ComponentLink3Description: https://datasheet.ciiva.com/26931/getdatasheetpartid-726165-26931257.pdf?src-supplier=Verical; Value: SIP32431DR3-T1GE3; Supplier Part Number 1: SIP32431DR3-T1GE3CT-ND
footprint SC70-6 (SC70-6, Body 2.00x2.10mm, Pitch 0.65mm, IPC High Density)
pins: 1 OUT, 2 GND, 3 ON/OFF, 4 IN, 5 GND, 6 N/C

## SIP32510DT-T1-GE3
designator U?
VISHAY         SIP32510DT-T1-GE3            Power Load Switch, Slew Rate Controlled, High Side, Active High, 1 Output, 5.5V, TSOT-23-6; Number of Outputs: 1; Nominal Supply Current: 1uA; Max Power Dissipation: 833mW; Min Supply Voltage: 1.2V; Interface: On/Off; Max Output Current: 3A; On-State Resistance: 53mR; Turn-Off Delay Time: 1us; Turn-On Delay Time: 400us; Fault Protection: Reverse Current; Supplier 1: Digi-Key; Manufacturer: Vishay; Manufacturer Part Number: SIP32510DT-T1-GE3; Stock 1: 65190; Pricing 1: 1=0.41, 10=0.348, 25=0.3244, 100=0.2596, 250=0.24104, 500=0.20394, 1000=0.15759 (USD); Mount: Surface Mount; Case/Package: SOT-23-6; Number of Pins: 23; Min Operating Temperature: -40°C; Max Operating Temperature: 125°C; Packaging: Tape and Reel; Package Quantity: 3000; Max Supply Voltage: 5.5V; Output Configuration: High Side; Radiation Hardening: No; REACH SVHC: Unknown; ComponentLink1URL: http://www.farnell.com/datasheets/2049123.pdf; ComponentLink1Description: http://www.farnell.com/datasheets/2049123.pdf; ComponentLink2URL: http://www.vishay.com/docs/63577/sip32510.pdf; ComponentLink2Description: http://www.vishay.com/docs/63577/sip32510.pdf; Value: SIP32510DT-T1-GE3; Supplier Part Number 1: SIP32510DT-T1-GE3DKR-ND
footprint SOT23-6
pins: 1 OUT, 2 OUT, 3 EN, 4 GND, 5 IN, 6 IN

## SN74HC14DR
designator U?
Inverter Schmitt Trigger 6-Element CMOS 14-Pin SOIC T/R; Manufacturer: Texas Instruments; Number of Circuits: 6; Quiescent Current: 2uA; High Level Output Current: -5.2mA; Low Level Output Current: 5.2mA; Turn-On Delay Time: 31ns; Min Supply Voltage: 2V; Max Supply Voltage: 6V; Logic Function: Buffer,Inverter,Schmitt Trigger; Operating Supply Voltage: 5V; Number of Inputs: 1; Propagation Delay: 21ns; Schmitt Trigger Input: Yes; Supplier 1: Digi-Key; Manufacturer Part Number: SN74HC14DR; RoHS: Yes; Category: Logic Gates; Stock 1: 51917; Pricing 1: 1=0,40000, 10=0,29900, 25=0,26960, 100=0,18620, 250=0,15680, 500=0,12740, 1000=0,09800 (USD); Mount: Surface Mount; Case/Package: SOIC; Number of Pins: 14; Weight: 0.004318oz; Contact Plating: Gold; Min Operating Temperature: -40°C; Max Operating Temperature: 85°C; Number of Elements: 6; Packaging: Tape and Reel; Package Quantity: 2500; Output Current: 5.2mA; Number of Gates: 6; Number of Bits: 6; Length: 8.65mm; Height: 1.58mm; Width: 3.91mm; Radiation Hardening: No; REACH SVHC: No SVHC; Lead Free: Lead Free; ComponentLink1URL: https://datasheet.ciiva.com/15089/getdatasheetpartid-253157-15089478.pdf?src-supplier=Verical; ComponentLink1Description: https://datasheet.ciiva.com/15089/getdatasheetpartid-253157-15089478.pdf?src-supplier=Verical; ComponentLink2URL: https://datasheet.ciiva.com/7281/sn74hc14-7281611.pdf?src-supplier=Newark; ComponentLink2Description: https://datasheet.ciiva.com/7281/sn74hc14-7281611.pdf?src-supplier=Newark; ComponentLink3URL: https://datasheet.ciiva.com/19481/1999661-19481666.pdf?src-supplier=Jameco; ComponentLink3Description: https://datasheet.ciiva.com/19481/1999661-19481666.pdf?src-supplier=Jameco; ComponentLink4URL: https://datasheet.ciiva.com/1864/sn74hc14-1864641.pdf?src-supplier=Digi-Key; ComponentLink4Description: https://datasheet.ciiva.com/1864/sn74hc14-1864641.pdf?src-supplier=Digi-Key; ComponentLink5URL: https://datasheet.ciiva.com/1864/sn74hc14-1864642.pdf?src-supplier=Digi-Key; ComponentLink5Description: https://datasheet.ciiva.com/1864/sn74hc14-1864642.pdf?src-supplier=Digi-Key; ComponentLink6URL: https://datasheet.ciiva.com/1864/sn74hc14-1864643.pdf?src-supplier=Digi-Key; ComponentLink6Description: https://datasheet.ciiva.com/1864/sn74hc14-1864643.pdf?src-supplier=Digi-Key; Value: SN74HC14DR; Supplier Part Number 1: 296-1194-1-ND
footprint SOIC14 (SOIC, 14-Leads, Body 8,65x3,90mm, Pitch 1,27mm, IPC Medium Density)
part A pins: 1 A (in), 2 Y (out), 7 GND, 14 VCC
part B pins: 3 A (in), 4 Y (out)
part C pins: 5 A (in), 6 Y (out)
part D pins: 8 Y (out), 9 A (in)
part E pins: 10 Y (out), 11 A (in)
part F pins: 12 Y (out), 13 A (in)